# EAGLE library part CIOC_4-4-FV (library con-phoenix)
4x4 Buchse vertikal
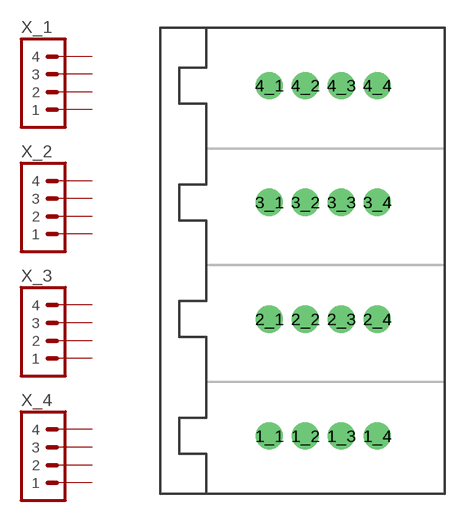
[diagram p1: symbol with the pads of CIOC_4-4-FV; footprint CIOC_4-4-FV]

Designator prefix X; gates _1=M04_NUMBERED _2=M04_NUMBERED _3=M04_NUMBERED _4=M04_NUMBERED

## CIOC_4-4-FV (MANUF: Phoenix-Contacts; ORDERNR: 1701401)  [CIOC_4-4-FV]
1_1  _1:1  pas
1_2  _1:2  pas
1_3  _1:3  pas
1_4  _1:4  pas
2_1  _2:1  pas
2_2  _2:2  pas
2_3  _2:3  pas
2_4  _2:4  pas
3_1  _3:1  pas
3_2  _3:2  pas
3_3  _3:3  pas
3_4  _3:4  pas
4_1  _4:1  pas
4_2  _4:2  pas
4_3  _4:3  pas
4_4  _4:4  pas

## Footprint CIOC_4-4-FV (pad centres in mm)
drill 1: 1_1 6.05,3.2; 1_2 8.05,3.2; 1_3 10.05,3.2; 1_4 12.05,3.2; 2_1 6.05,9.7; 2_2 8.05,9.7; 2_3 10.05,9.7; 2_4 12.05,9.7; 3_1 6.05,16.2; 3_2 8.05,16.2; 3_3 10.05,16.2; 3_4 12.05,16.2; 4_1 6.05,22.7; 4_2 8.05,22.7; 4_3 10.05,22.7; 4_4 12.05,22.7